# EAGLE library part NRF8001BREAKOUT (library BlueToothStepperV2)
The blue tooth breakeout board from adafruit
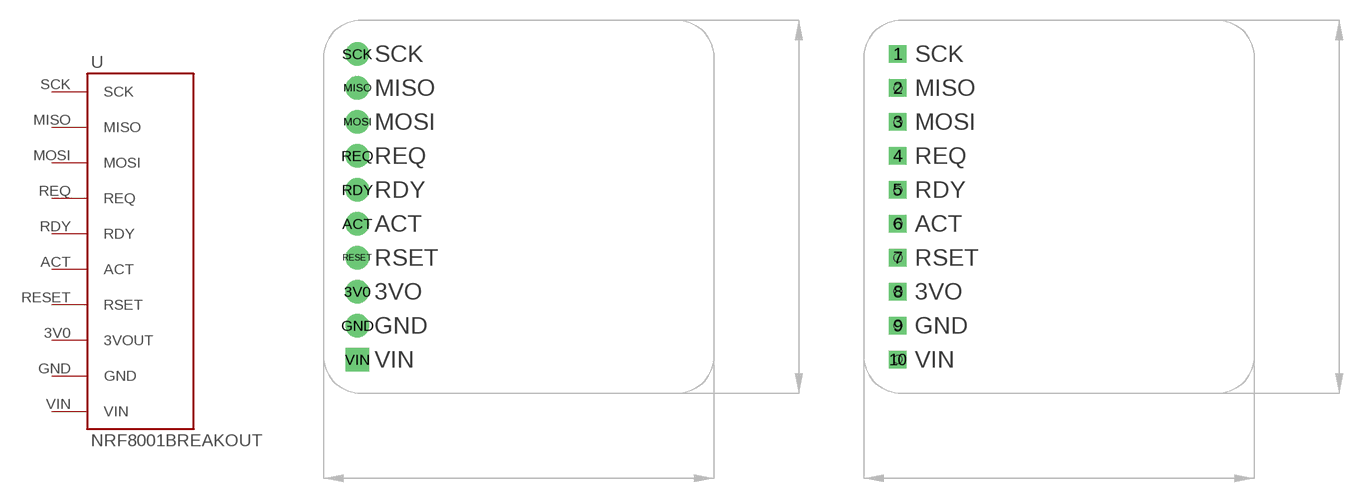
[diagram p0: symbol with the pads of BREAKOUTV2; footprints BREAKOUTV2, BREAKOUT]

Designator prefix -

## NRF8001BREAKOUT  [BREAKOUTV2]
3V0  3VOUT
ACT  ACT
GND  GND
MISO  MISO
MOSI  MOSI
RDY  RDY
REQ  REQ
RESET  RSET
SCK  SCK
VIN  VIN

## NRF8001BREAKOUTV1  [BREAKOUT]
1  SCK
2  MISO
3  MOSI
4  REQ
5  RDY
6  ACT
7  RSET
8  3VOUT
9  GND
10  VIN

## Footprint BREAKOUTV2 (pad centres in mm)
drill 1 pad 1.778: 3V0 3.81,-8.89; ACT 3.81,-3.81; GND 3.81,-11.43; MISO 3.81,6.35; MOSI 3.81,3.81; RDY 3.81,-1.27; REQ 3.81,1.27; RESET 3.81,-6.35; SCK 3.81,8.89
drill 1 pad 1.778 square: VIN 3.81,-13.97

## Footprint BREAKOUT (pad centres in mm)
drill 0.8 square: 1 -10.16,20.32; 2 -10.16,17.78; 3 -10.16,15.24; 4 -10.16,12.7; 5 -10.16,10.16; 6 -10.16,7.62; 7 -10.16,5.08; 8 -10.16,2.54; 9 -10.16,0; 10 -10.16,-2.54
hole 0.6 at -10.16,17.78
hole 0.6 at -10.16,15.24
hole 0.6 at -10.16,10.16
hole 0.6 at -10.16,7.62
hole 0.6 at -10.16,5.08
hole 0.6 at -10.16,2.54
hole 0.6 at -10.16,0
hole 0.6 at -10.16,-2.54